# Altium integrated library 87832-1420.IntLib: 1 symbol
Pins are listed as number, name and electrical type; pins without a type are passive.

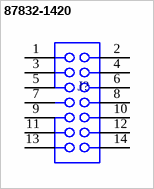
[diagram p0: symbol 87832-1420]

## 87832-1420
designator J?
Connector Header Surface Mount 14 position 0.079 _2.00mm_; MP: 87832-1420; MF: Molex; Value: *; SnapEDA_Link: https://www.snapeda.com/parts/87832-1420/Molex/view-part/78740/?ref=snap; Price: None; Package: None; Availability: Unavailable
footprint MOLEX_87832-1420
pins: 1, 2, 3, 4, 5, 6, 7, 8, 9, 10, 11, 12, 13, 14